# Altium footprint library EISI.PcbLib: 695 footprints (part 14 of 44)
Each footprint in its own frame and in the unit in brackets; x right, y up, seen from the top. Pads: shape width x height; smd on the part's side, far side on the other; paste and mask are expansions set on the pad; w line width, h text height; cw(c..) or ccw(c..) is an arc to the next point about the centre after c.
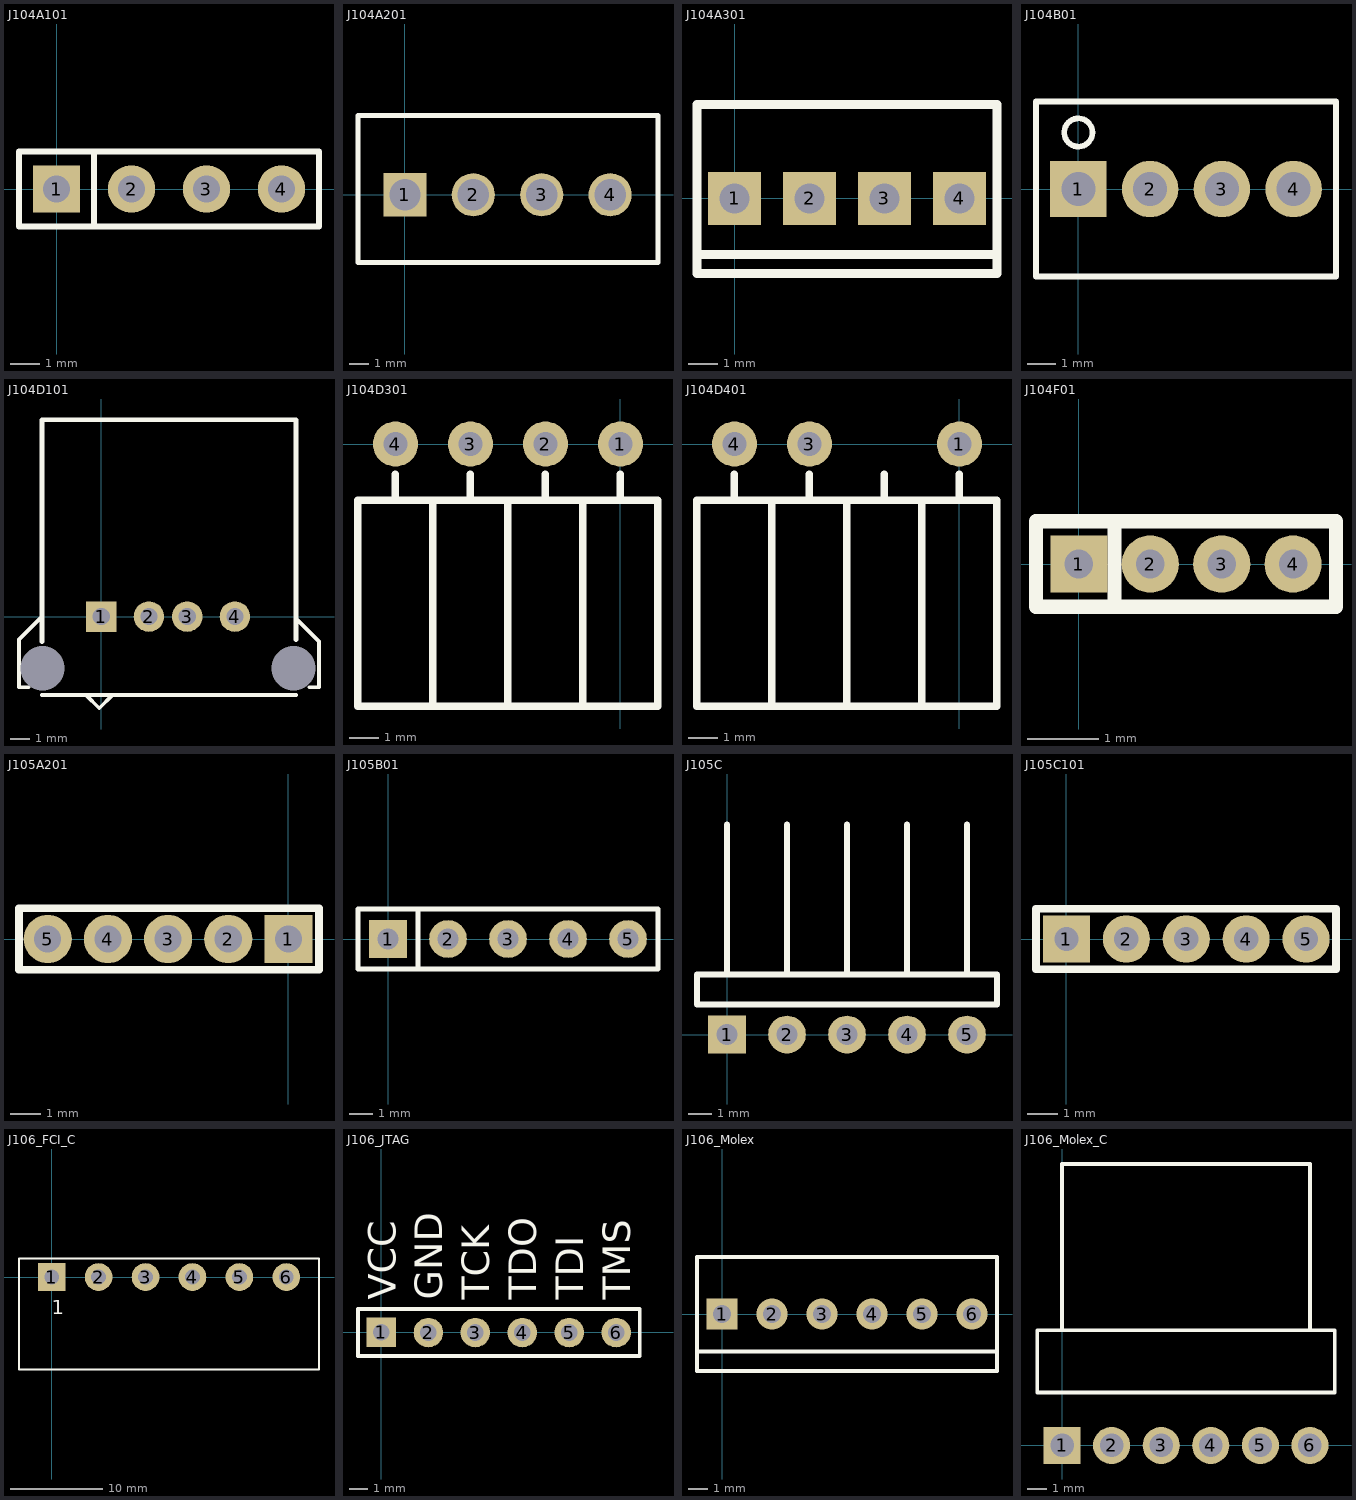
[diagram p13: the footprints below, top view; thin cyan lines are the x and y axes]

## J104A101 [mm]
pads (4):
  rect 1.6x1.6 hole 0.9: 1(0,0)
  round 1.6 hole 0.9: 2(2.54,0) 3(5.08,0) 4(7.62,0)
TopOverlay:
  lines w0.2: 1.27,-1.27 1.27,1.27 ; -1.27,-1.27 -1.27,1.27 8.89,1.27 8.89,-1.27 -1.27,-1.27

## J104A201 [mil]
pads (4):
  rect 87x87 hole 63: 1(0,0)
  round 87 hole 63: 2(137.79,0) 3(275.59,0) 4(413.39,0)
TopOverlay:
  lines w10: 507.87,159.45 -94.49,160.24 -94.49,-136.61 509.84,-136.81 ; 509.84,-136.61 509.84,160.24

## J104A301 [mm]
pads (4):
  rect 1.8x1.8 hole 1.016 unplated: 1(0,0) 2(2.54,0) 3(5.08,0) 4(7.62,0)
TopOverlay:
  lines w0.305: -1.27,-1.905 8.89,-1.905 ; -1.27,-2.54 -1.27,3.175 8.89,3.175 8.89,-2.54 -1.27,-2.54

## J104B01 [mm] "Micro-Barette serre-fils pas 2.54mm"
height 8.5
pads (4):
  rect 2x2 hole 1.2: 1(0,0)
  round 2 hole 1.2: 2(2.54,0) 3(5.08,0) 4(7.62,0)
TopOverlay:
  circle w0.2: c0,2 r0.5
  lines w0.2: -1.5,-3.1 9.12,-3.1 9.12,3.1 -1.5,3.1 -1.5,-3.1

## J104D101 [mm]
pads (6):
  rect 1.6x1.6 hole 0.9: 1(0,0)
  round 1.6 hole 0.9: 2(2.5,0) 3(4.5,0) 4(7,0)
  round 0.305 hole 2.311: ""(-3.07,-2.71) ""(10.07,-2.71)
TopOverlay:
  lines w0.2: -3.8,-3.7 -4.3,-3.7 -4.3,-2.5 -4.3,-1.2 -3.1,0 ; -3.1,-4.1 10.2,-4.1 ; -0.8,-4.1 -0.1,-4.8 0.6,-4.1 ; 10.2,-0.1 11.4,-1.3 11.4,-3.7 10.9,-3.7
  lines w0.254: -3.1,-1.3 -3.1,10.3 10.2,10.3 10.2,-1.2

## J104D301 [mil]
pads (4):
  round 60 hole 32: 1(0,0) 2(-100,0) 3(-200,0) 4(-300,0)
TopOverlay:
  lines w10: -300,-75 -300,-40 ; -200,-75 -200,-40 ; -150,-350 -150,-75 ; -100,-75 -100,-40 ; -50,-350 -50,-75 ; 0,-75 0,-40 ; -250,-350 -350,-350 -350,-75 -250,-75 ; -250,-350 50,-350 50,-75 -250,-75 ; -250,-350 -250,-75

## J104D401 [mil]
pads (3):
  round 60 hole 32: 1(0,0) 3(-200,0) 4(-300,0)
TopOverlay:
  lines w10: -300,-75 -300,-40 ; -200,-75 -200,-40 ; -150,-350 -150,-75 ; -100,-75 -100,-40 ; -50,-350 -50,-75 ; 0,-75 0,-40 ; -250,-350 -350,-350 -350,-75 -250,-75 ; -250,-350 50,-350 50,-75 -250,-75 ; -250,-350 -250,-75

## J104F01 [mm] "4 pin espace 1.27mm"
pads (4):
  rect 0.8x0.8 hole 0.4: 1(0,0)
  round 0.8 hole 0.4: 2(1,0) 3(2,0) 4(3,0)
TopOverlay:
  lines w0.2: 0.5,-0.6 0.5,0.6 ; -0.6,-0.6 -0.6,0.6 0.1,0.6 3.6,0.6 3.6,-0.6 -0.6,-0.6

## J105A201 [mm]
pads (5):
  rect 1.6x1.6 hole 0.9: 1(0,0)
  round 1.6 hole 0.9: 2(-2,0) 3(-4,0) 4(-6,0) 5(-8,0)
TopOverlay:
  lines w0.254: -8.954,-1.016 -8.954,1.016 ; -8.89,-1.016 1.016,-1.016 1.016,1.016 -8.89,1.016

## J105B01 [mm]
pads (5):
  rect 1.6x1.6 hole 0.9: 1(0,0)
  round 1.6 hole 0.9: 2(2.54,0) 3(5.08,0) 4(7.62,0) 5(10.16,0)
TopOverlay:
  lines w0.2: 1.27,-1.27 1.27,1.27 ; -1.27,-1.27 11.43,-1.27 11.43,1.27 -1.27,1.27 -1.27,-1.27

## J105C [mm] "Barette 5 pôles coudée"
pads (5):
  rect 1.6x1.6 hole 0.9: 1(0,0)
  round 1.6 hole 0.9: 2(2.54,0) 3(5.08,0) 4(7.62,0) 5(10.16,0)
TopOverlay:
  lines w0.25: 0,2.54 0,8.89 ; 2.54,2.54 2.54,8.89 ; 5.08,2.54 5.08,8.89 ; 7.62,2.54 7.62,8.89 ; 10.16,2.54 10.16,8.89 ; -1.27,1.27 11.43,1.27 11.43,2.54 -1.27,2.54 -1.27,1.27

## J105C101 [mil]
pads (5):
  rect 62x62 hole 32: 1(0,0)
  round 62 hole 32: 2(78.74,0) 3(157.48,0) 4(236.22,0) 5(314.96,0)
TopOverlay:
  lines w10: -40,-40 354.33,-40 354.33,40 -40,40 -40,-40

## J106_FCI_C [mm] "TERM BLOCK HDR 6POS 5.08MM R/A FCI"
height 8.5
pads (6):
  rect 3x3 hole 1.6: 1(0,0)
  round 3 hole 1.6: 2(5.08,0) 3(10.16,0) 4(15.24,0) 5(20.32,0) 6(25.4,0)
TopOverlay:
  lines w0.2: -3.54,-10 28.94,-10 28.94,2 -3.54,2 -3.54,-10
  text "1" at 0,-4 h1.52

## J106_JTAG [mm]
pads (6):
  rect 1.6x1.6 hole 0.9: 1(0,0)
  round 1.6 hole 0.9: 2(2.546,-0.008) 3(5.086,-0.008) 4(7.626,-0.008) 5(10.166,-0.008) 6(12.706,-0.008)
TopOverlay:
  lines w0.2: -1.264,-1.278 -1.264,1.262 13.976,1.262 13.976,-1.278 -1.264,-1.278
  text "TMS" at 13.468,1.77 h1.5
  text "TDI" at 10.928,1.77 h1.5
  text "TDO" at 8.388,1.77 h1.5
  text "TCK" at 5.848,1.77 h1.5
  text "GND" at 3.308,1.77 h1.5
  text "VCC" at 0.768,1.77 h1.5

## J106_Molex [mm] "Connecteur Molex droit 6 pôles"
height 11.7
pads (6):
  rect 1.6x1.6 hole 0.9: 1(0,0)
  round 1.6 hole 0.9: 2(2.54,0) 3(5.08,0) 4(7.62,0) 5(10.16,0) 6(12.7,0)
TopOverlay:
  lines w0.2: -1.27,-1.9 13.97,-1.9 ; -1.27,-2.9 13.97,-2.9 13.97,2.9 -1.27,2.9 -1.27,0 -1.27,-2.9

## J106_Molex_C [mm]
pads (6):
  rect 1.9x1.9 hole 1.2: 1(0,0)
  round 1.9 hole 1.2: 2(2.54,0) 3(5.08,0) 4(7.62,0) 5(10.16,0) 6(12.7,0)
TopOverlay:
  lines w0.2: 0,5.9 0,14.42 12.7,14.42 12.7,5.9 ; -1.27,2.72 13.97,2.72 13.97,5.9 -1.27,5.9 -1.27,2.72